# EAGLE library part PAD_08 (library stepOSP)
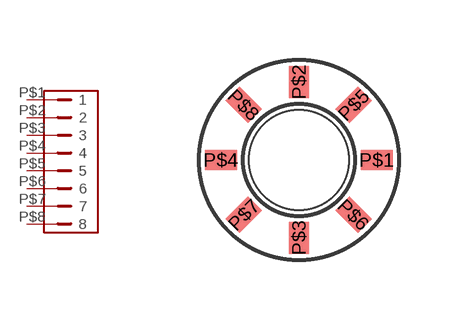
[diagram p7: symbol with the pads of PAD_08; footprint PAD_08]

Designator prefix -

## PAD_08  [PAD_08]
P$1  1
P$2  2
P$3  3
P$4  4
P$5  5
P$6  6
P$7  7
P$8  8

## Footprint PAD_08 (pad centres in mm)
smd 0.8 x 0.5: P$1 1.95,0; P$4 -1.95,0
smd 0.5 x 0.8: P$2 0,1.95; P$3 0,-1.95
smd 0.8 x 0.5 rotated 45: P$5 1.375,1.375
smd 0.8 x 0.5 rotated 315: P$6 1.375,-1.375
smd 0.8 x 0.5 rotated 225: P$7 -1.375,-1.375
smd 0.8 x 0.5 rotated 135: P$8 -1.375,1.375
hole 2.5 at 0,0